# Altium schematic symbol library EPSON FC-12M.Schlib: 1 symbol
Pins are listed as number, name and electrical type; pins without a type are passive.

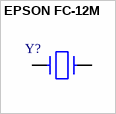
[diagram p0: symbol EPSON FC-12M]

## EPSON FC-12M
designator Y?
pins: 1, 2